# Altium schematic symbol library SCH_MyLib_0.SchLib: 770 symbols (part 1 of 7)
Pins are listed as number, name and electrical type; pins without a type are passive.

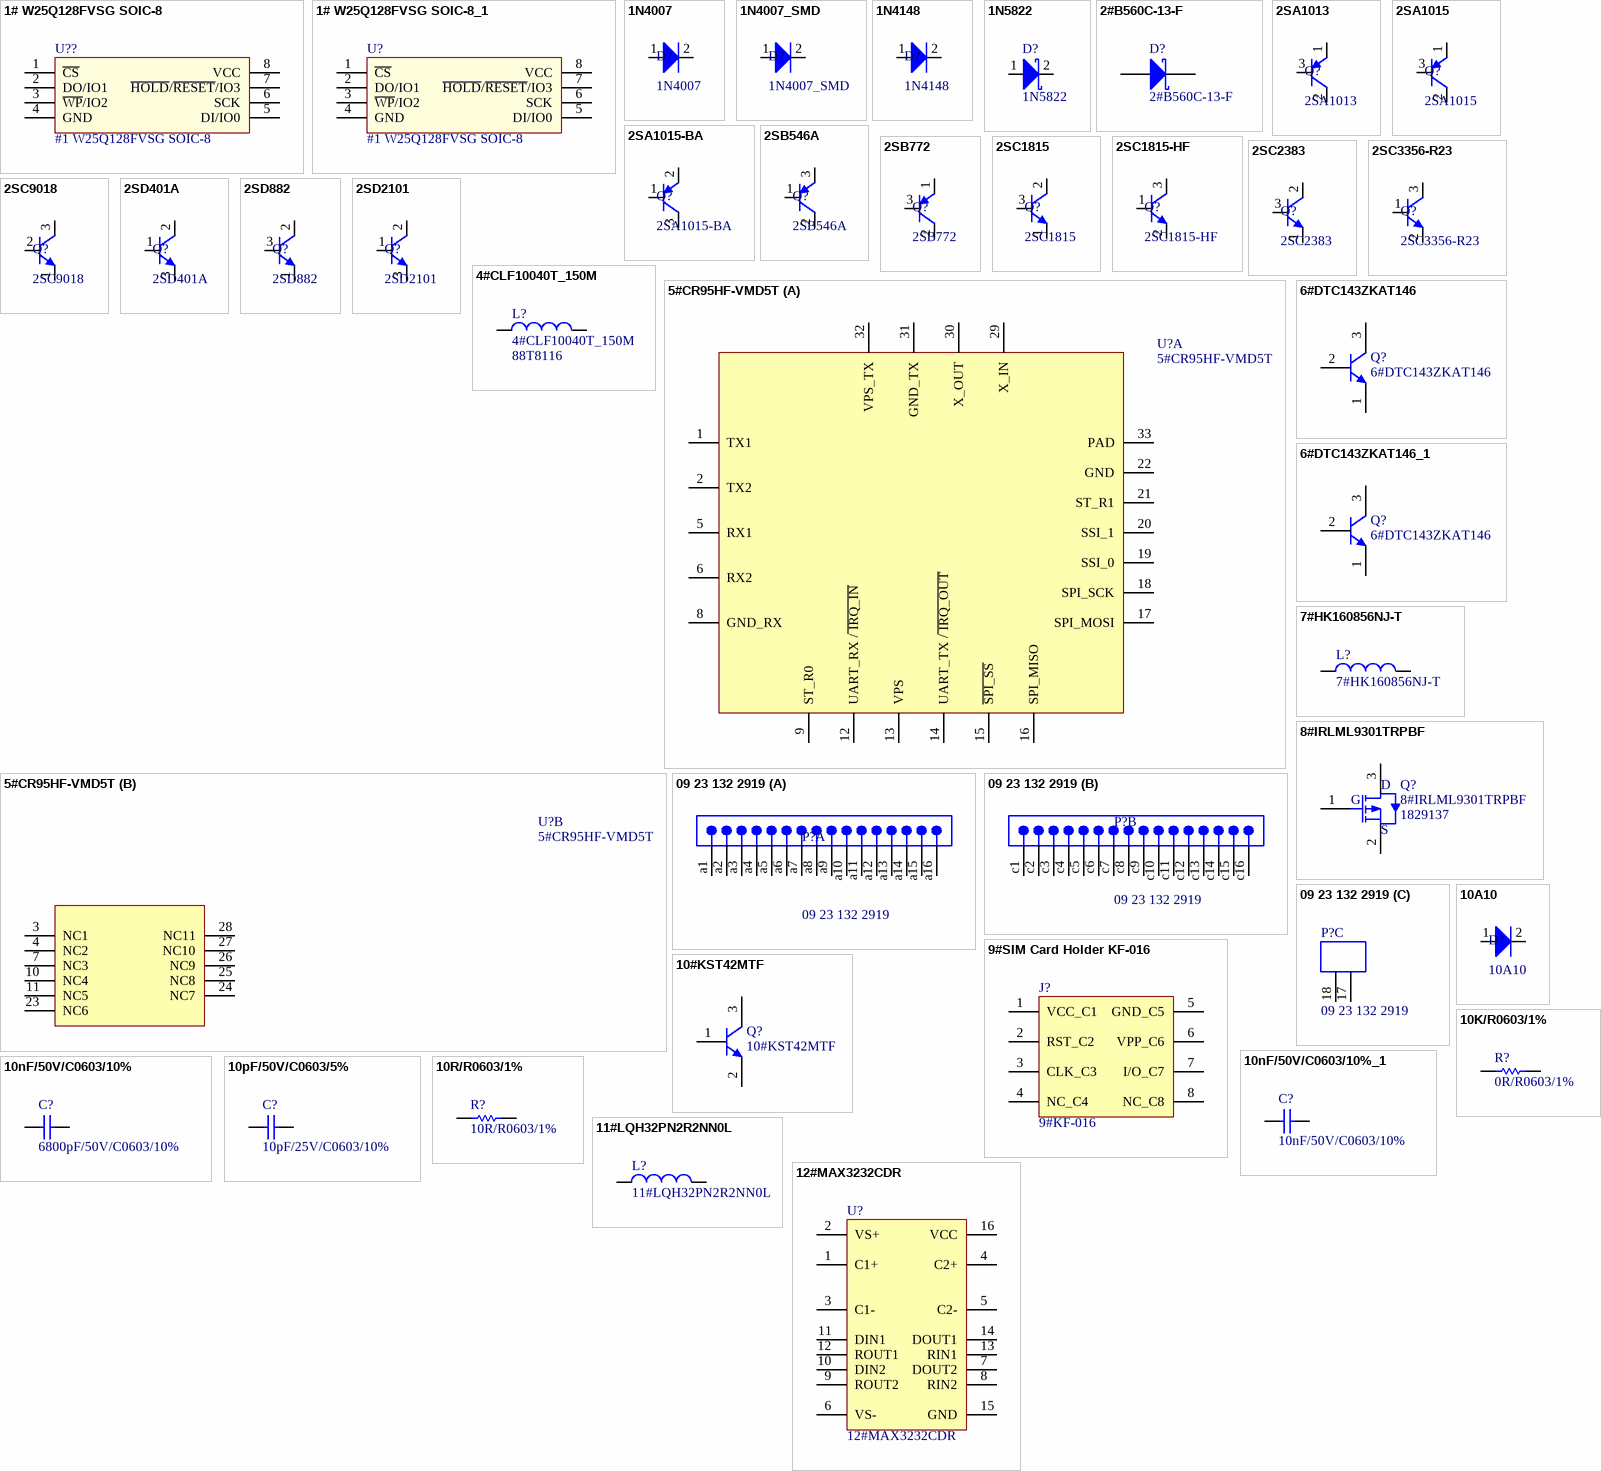
[diagram p0: symbols 1# W25Q128FVSG SOIC-8 to 12#MAX3232CDR]

## 1# W25Q128FVSG SOIC-8
designator U??, comment #1 W25Q128FVSG SOIC-8
footprint 1# W25Q128FV (8-Pin SOIC 208 mil)
pins: 1 ~{CS}, 2 DO/IO1, 3 ~{WP}/IO2, 4 GND, 5 DI/IO0, 6 SCK, 7 ~{HOLD}/~{RESET}/IO3, 8 VCC

## 1# W25Q128FVSG SOIC-8_1
designator U?, comment #1 W25Q128FVSG SOIC-8
footprint 1# W25Q128FV (8-Pin SOIC 208 mil)
pins: 1 ~{CS}, 2 DO/IO1, 3 ~{WP}/IO2, 4 GND, 5 DI/IO0, 6 SCK, 7 ~{HOLD}/~{RESET}/IO3, 8 VCC

## 1N4007
designator D?
Diode LS 1A 1000V DO-41; ComponentLink1Description: Datasheet; ComponentLink1URL: D:\Dropbox\Datasheets\Diodes and Rectifiers\Diodes\1N400X.pdf; Unit Price: 0.0072
footprint 1N4007 (DIODE_DIP)
pins: 1 A, 2 K

## 1N4007_SMD
designator D?
Diode LS 1A 1000V DO214-AC; ComponentLink1Description: Datasheet; ComponentLink1URL: D:\Dropbox\Datasheets\Diodes and Rectifiers\Diodes\1N400X.pdf; Unit Price: 0.0072
footprint 1n4007 smd (DO214 4.57x2.79mm)
pins: 1 A, 2 K

## 1N4148
designator D?
Diode HS 200mA 100V DO-35; ComponentLink1Description: Datasheet; ComponentLink1URL: D:\Dropbox\Datasheets\Diodes and Rectifiers\Diodes\1N4148.pdf; Unit Price: 0.0038
footprint 1N4148 (DIODE_DIP)
pins: 1 A, 2 K

## 1N5822
designator D?
Schottky Diode 3A 40V DO-201AD; ComponentLink1Description: Datasheet; ComponentLink1URL: D:\Dropbox\Datasheets\Diodes and Rectifiers\Diodes\1N582X.pdf; Unit Price: 0.1667
footprint 1N5822 (DIODE_DIP)
pins: 1 A, 2 K

## 2#B560C-13-F
designator D?
DIODE SCHOTTKY 60V 5A SMC; Manufacturer: Diodes; Peak Reverse Current: 500uA; Forward Voltage: 700mV; Max Forward Surge Current (Ifsm): 100A; Element Configuration: Single; Polarity: Standard; Capacitance: 300pF; Supplier 1: Digi-Key; Manufacturer Part Number: B560C-13-F; Stock 1: 183351; Pricing 1: 1=0.55, 10=0.467, 100=0.349, 500=0.2742, 1000=0.2119 (USD); Mount: Surface Mount; Case/Package: SMC; Number of Pins: 2; Weight: 0.007408oz; Contact Plating: Matte,Tin; Min Operating Temperature: -55°C; Max Operating Temperature: 125°C; Package Quantity: 3000; Packaging: Tape and Reel; Forward Current: 5A; Max Repetitive Reverse Voltage (Vrrm): 60V; Average Rectified Current: 5A; Peak Non-Repetitive Surge Current: 100A; Termination: SMD/SMT; Voltage Rating (DC): 60V; Current Rating: 5A; Output Current: 5A; Max Reverse Voltage (DC): 60V; Length: 7.11mm; Height: 2.5mm; Width: 6.22mm; Radiation Hardening: No; REACH SVHC: No SVHC; Lead Free: Lead Free; Supplier Part Number 1: B560C-FDICT-ND
footprint 2# B560C (Molded Diode, 2-Leads, Body 6.85x5.90mm, IPC Medium Density)
pins: 1 A, 2 K

## 2SA1013
designator Q?
Trans PNP -160V -1A TO-92; ComponentLink1Description: Datasheet; ComponentLink1URL: D:\Dropbox\Datasheets\Transistors\N Channel Bipolar\2SA1013.pdf; Unit Price: 0.0476
footprint 2SA1013 (TO-92 Bent Lead, Flat Index; 3 In-Line, Axial Leads; Body Dia. 4.5mm; Leads 0.51 x 0.48 mm (max))
pins: 1 E, 2 C, 3 B

## 2SA1015
designator Q?
Trans PNP -50V -150mA TO-92; ComponentLink1Description: Datasheet; ComponentLink1URL: D:\Dropbox\Datasheets\Transistors\N Channel Bipolar\2SA1015.pdf; Unit Price: 0.0143
footprint 2SA1015 (TO-92 Bent Lead, Flat Index; 3 In-Line, Axial Leads; Body Dia. 4.5mm; Leads 0.51 x 0.48 mm (max))
pins: 1 E, 2 C, 3 B

## 2SA1015-BA
designator Q?
Trans PNP -50V -150mA SOT-23; ComponentLink1Description: Datasheet; ComponentLink1URL: D:\Dropbox\Datasheets\Transistors\N Channel Bipolar\2SA1015-BA.pdf; Unit Price: 0.0286
footprint SOT-23_L (SOT23, 3-Leads, Body 2.9x1.3mm, Pitch 0.95mm, Lead Span 2.5mm, IPC High Density)
pins: 1 B, 2 E, 3 C

## 2SB546A
designator Q?
Trans PNP -150V -2A TO-220; ComponentLink1Description: Datasheet; ComponentLink1URL: D:\Dropbox\Datasheets\Transistors\N Channel Bipolar\2SB546A.pdf; Unit Price: 0.1667
footprint TO-220AB (TO, Thru-Hole, Vertical, Heatsink Mounted; 3 In-Line Leads; Pitch 2.54 mm)
pins: 1 B, 2 C, 3 E

## 2SB772
designator Q?
Trans PNP -30V -3A TO-126; ComponentLink1Description: Datasheet; ComponentLink1URL: D:\Dropbox\Datasheets\Transistors\P Channel Bipolar\2SB772.pdf; Unit Price: 0.1190
footprint TO-126 (Footprint not found)
pins: 1 E, 2 C, 3 B

## 2SC1815
designator Q?
Trans NPN 50V 150mA TO-92; ComponentLink1Description: Datasheet; ComponentLink1URL: D:\Dropbox\Datasheets\Transistors\P Channel Bipolar\2SC1815.pdf; Unit Price: 0.0143
footprint 2SC1815 (TO-92 Bent Lead, Flat Index; 3 In-Line, Axial Leads; Body Dia. 4.5mm; Leads 0.51 x 0.48 mm (max))
pins: 1 E, 2 C, 3 B

## 2SC1815-HF
designator Q?
Trans NPN 50V 150mA SOT-23; ComponentLink1Description: Datasheet; ComponentLink1URL: D:\Dropbox\Datasheets\Transistors\P Channel Bipolar\2SC1815-HF.pdf; Unit Price: 0.0286
footprint 2SC1815-HF (SOT23-3)
pins: 1 B, 2 E, 3 C

## 2SC2383
designator Q?
Trans NPN 160V 1A TO-92; ComponentLink1Description: Datasheet; ComponentLink1URL: D:\Dropbox\Datasheets\Transistors\P Channel Bipolar\2SC2383.pdf; Unit Price: 0.0476
footprint TO-92A (TO-92 Straight Lead, Flat Index; 3 In-Line, Axial Leads; Body Dia. 4.5mm; Leads 0.51 x 0.48 mm (max))
pins: 1 E, 2 C, 3 B

## 2SC3356-R23
designator Q?
Trans NPN 12V 100mA SOT-23; ComponentLink1Description: Datasheet; ComponentLink1URL: D:\Dropbox\Datasheets\Transistors\P Channel Bipolar\2SC2356-R23.pdf; Unit Price: 0.0714
footprint SOT-23_L (SOT23, 3-Leads, Body 2.9x1.3mm, Pitch 0.95mm, Lead Span 2.5mm, IPC High Density)
pins: 1 B, 2 E, 3 C

## 2SC9018
designator Q?
Trans NPN 15V 50mA TO-92; ComponentLink1Description: Datasheet; ComponentLink1URL: D:\Dropbox\Datasheets\Transistors\P Channel Bipolar\2SC9018.pdf; Unit Price: 0.0714
footprint TO-92A (TO-92 Straight Lead, Flat Index; 3 In-Line, Axial Leads; Body Dia. 4.5mm; Leads 0.51 x 0.48 mm (max))
pins: 1 E, 2 B, 3 C

## 2SD401A
designator Q?
Trans NPN 150V 2A TO-220; ComponentLink1Description: Datasheet; ComponentLink1URL: D:\Dropbox\Datasheets\Transistors\P Channel Bipolar\2SD401A.pdf; Unit Price: 0.1667
footprint TO-220AB (TO, Thru-Hole, Vertical, Heatsink Mounted; 3 In-Line Leads; Pitch 2.54 mm)
pins: 1 B, 2 C, 3 E

## 2SD882
designator Q?
Trans NPN 30V 3A TO-126; Unit Price: 0.1190; ComponentLink1Description: Datasheet; ComponentLink1URL: D:\Dropbox\Datasheets\Transistors\P Channel Bipolar\2SD882.pdf
footprint TO-126 (Footprint not found)
pins: 1 E, 2 C, 3 B

## 2SD2101
designator Q?
Trans NPN 200V 10A TO-220; ComponentLink1Description: Datasheet; ComponentLink1URL: D:\Dropbox\Datasheets\Transistors\P Channel Bipolar\2SD401A.pdf; Unit Price: 0.1667
footprint 2SD2101 (TO-220FM)
pins: 1 B, 2 C, 3 E

## 4#CLF10040T_150M
designator L?  Supplier Part Number 1: 88T8116
FIXED IND 15uH 3.2A 40 MOHM (10.0×9.7×3.8); Supplier 1: Newark
footprint 4# clf10040XX (Precision Wire Wound Inductor, 2-Leads, Body 10.00x9.70mm, IPC Medium Density)
pins: 1, 2

## 5#CR95HF-VMD5T
designator U?
NFC/RFID Read/Write 13.553MHz to 13.567MHz 32-Pin VFQFPN EP T/R; Manufacturer: STMicroelectronics; Data Rate: 2Mbps; Output Power: 230mW; Interface: SPI,UART; Max Supply Voltage: 3.3V; Min Supply Voltage: 2.7V; Frequency: 13.56MHz; Max Supply Current: 600uA; Max Frequency: 2MHz; Power Dissipation: 1W; Supplier 1: Digi-Key; Manufacturer Part Number: CR95HF-VMD5T; Stock 1: 10362; Pricing 1: 1=3.68, 10=3.281, 100=2.6906, 500=2.1788, 1000=1.8375 (USD); Mount: Surface Mount; Number of Pins: 32; Contact Plating: Gold,Tin; Number of Terminals: 32; Min Operating Temperature: -25°C; Max Operating Temperature: 85°C; Packaging: Tape and Reel; Package Quantity: 3000; Nominal Supply Current: 600uA; Lead Free: Lead Free; Supplier Part Number 1: 497-15737-1-ND
footprint 5# CR95HF (VFQFPN, 32-Leads, Body 5.00x5.00mm, Pitch 0.50mm, Thermal Pad 3.80x3.80mm, IPC Medium Density)
part A pins: 1 TX1, 2 TX2, 5 RX1, 6 RX2, 8 GND_RX, 9 ST_R0, 12 UART_RX /~{ IRQ_IN}, 13 VPS, 14 UART_TX /~{ IRQ_OUT}, 15 ~{SPI_SS}, 16 SPI_MISO, 17 SPI_MOSI, 18 SPI_SCK, 19 SSI_0, 20 SSI_1, 21 ST_R1, 22 GND, 29 X_IN, 30 X_OUT, 31 GND_TX, 32 VPS_TX, 33 PAD
part B pins: 3 NC1, 4 NC2, 7 NC3, 10 NC4, 11 NC5, 23 NC6, 24 NC7, 25 NC8, 26 NC9, 27 NC10, 28 NC11

## 6#DTC143ZKAT146
designator Q?
NPN 100mA 50V; Manufacturer: Rohm; hFE Min: 80; Collector Emitter Voltage (VCEO): 300mV; Transition Frequency: 250MHz; Max Power Dissipation: 200mW; Element Configuration: Single; Supplier 1: Digi-Key; Manufacturer Part Number: DTC143ZKAT146; Stock 1: 76151; Pricing 1: 1=0.21, 10=0.193, 25=0.1756, 100=0.1265, 250=0.0745, 500=0.0619, 1000=0.0422 (USD); Mount: Surface Mount; Case/Package: SOT323; Number of Pins: 3; Min Operating Temperature: -55°C; Max Operating Temperature: 150°C; Max Output Current: 100mA; Operating Supply Voltage: 50V; Packaging: Tape and Reel; Package Quantity: 1; Max Collector Current: 100mA; Collector Emitter Breakdown Voltage: 50V; Max Breakdown Voltage: 50V; Polarity: NPN; Continuous Collector Current: 100mA; Power Dissipation: 200mW; Termination: SMD/SMT; Voltage Rating (DC): 50V; Current Rating: 100mA; Length: 2.9mm; Height: 1.1mm; Width: 1.6mm; Radiation Hardening: No; REACH SVHC: No SVHC; Lead Free: Lead Free; Supplier Part Number 1: DTC143ZKAT146CT-ND
footprint 6# DTC143ZUA (SOT-323(SC-70) UMT3)
pins: 1 E, 2 B, 3 C

## 6#DTC143ZKAT146_1
designator Q?, comment 6#DTC143ZKAT146
NPN 100mA 50V; Manufacturer: Rohm; hFE Min: 80; Collector Emitter Voltage (VCEO): 300mV; Transition Frequency: 250MHz; Max Power Dissipation: 200mW; Element Configuration: Single; Supplier 1: Digi-Key; Manufacturer Part Number: DTC143ZKAT146; Stock 1: 76151; Pricing 1: 1=0.21, 10=0.193, 25=0.1756, 100=0.1265, 250=0.0745, 500=0.0619, 1000=0.0422 (USD); Mount: Surface Mount; Case/Package: SOT323; Number of Pins: 3; Min Operating Temperature: -55°C; Max Operating Temperature: 150°C; Max Output Current: 100mA; Operating Supply Voltage: 50V; Packaging: Tape and Reel; Package Quantity: 1; Max Collector Current: 100mA; Collector Emitter Breakdown Voltage: 50V; Max Breakdown Voltage: 50V; Polarity: NPN; Continuous Collector Current: 100mA; Power Dissipation: 200mW; Termination: SMD/SMT; Voltage Rating (DC): 50V; Current Rating: 100mA; Length: 2.9mm; Height: 1.1mm; Width: 1.6mm; Radiation Hardening: No; REACH SVHC: No SVHC; Lead Free: Lead Free; Supplier Part Number 1: DTC143ZKAT146CT-ND
footprint 6# DTC143ZKAT146-E (SOT-346 SMT3)
pins: 1 E, 2 B, 3 C

## 7#HK160856NJ-T
designator L?
FIXED IND 56NH 300MA 750 MOHM; Manufacturer: Taiyo Yuden; Core Material: Ceramic,Ferrite; Self Resonant Frequency: 900MHz; Shielding: Unshielded; Q Factor: 12; Tolerance: 5%; DC Resistance (DCR): 750mR; Test Frequency: 100MHz; Supplier 1: Digi-Key; Manufacturer Part Number: HK160856NJ-T; Stock 1: 0; Mount: Surface Mount; Case/Package: 0603; Weight: 7.1E-05oz; Case Code (Metric): 1608; Case Code (Imperial): 0603; Min Operating Temperature: -55°C; Max Operating Temperature: 85°C; Packaging: Tape and Reel; Package Quantity: 4000; Current Rating: 300mA; Inductance: 56nh; Inductance Tolerance: 5%; Max DC Current: 300mA; Termination: SMD/SMT; Length: 0.063inch; Height: 0.8mm; Width: 0.8mm; Height - Seated (Max): 0.037inch; Lead Free: Exempt; Halogen Free: Halogen Free; REACH SVHC: Unknown; Supplier Part Number 1: 587-1554-1-ND
footprint 7# HK160856NJ-T (Chip Inductor, 2-Leads, Body 1.60x0.80mm, IPC Medium Density)
pins: 1, 2

## 8#IRLML9301TRPBF
designator Q?  Supplier Part Number 1: 1829137
MOSFET MOSFT P-Ch -30V -3.6A 64mOhm; Manufacturer: International Rectifier; Rds On Max: 64mR; Input Capacitance: 388pF; Rise Time: 19ns; Recovery Time: 21ns; Nominal Vgs: -1.3V; Number of Elements: 1; Max Power Dissipation: 1.3W; Drain to Source Voltage (Vdss): 30V; Continuous Drain Current (ID): 3.6A; Gate to Source Voltage (Vgs): 20V; Drain to Source Resistance: 103mR; Turn-On Delay Time: 9.6ns; Turn-Off Delay Time: 16ns; Fall Time: 15ns; Element Configuration: Single; Supplier 1: Farnell; Manufacturer Part Number: IRLML9301TRPBF; Mount: Surface Mount; Case/Package: SOT-23; Number of Pins: 3; Min Operating Temperature: -55°C; Max Operating Temperature: 150°C; Packaging: Tape and Reel; Package Quantity: 1; Power Dissipation: 1.3W; Threshold Voltage: -1.3V; Drain to Source Breakdown Voltage: -30V; On-State Resistance: 64MR; Length: 3.04mm; Height: 1.02mm; Width: 1.4mm; Radiation Hardening: No; REACH SVHC: No SVHC; Lead Free: Lead Free
footprint 8# IRLML9301- TRPbF (SOT-23)
pins: 1 G, 2 S, 3 D

## 09 23 132 2919
designator P?
Eurocard DIN 41612, Type 2C, Half Size, 32 Position, Rows a+c, Performance level 1, Male, Lead 3.0 mm, Pitch 2.54 mm; DrillSize: Corresponds to nominal value.; Published: 6-Oct-2005; DatasheetDocument: 03-Jun-2003; PackageReference: 0923132x919; Publisher: Altium Limited; ComponentLink1Description: Manufacturer Link; ComponentLink1URL: http://www.harting.com/
footprint 0923132x919 (Connector; DIN 41612, Type 2C, Thru-Hole; Rows a+c, 32 Position; Right Angle)
part A pins: a1, a2, a3, a4, a5, a6, a7, a8, a9, a10, a11, a12, a13, a14, a15, a16
part B pins: c1, c2, c3, c4, c5, c6, c7, c8, c9, c10, c11, c12, c13, c14, c15, c16
part C pins: 17 MH1 "Mounting Fixture", 18 MH2 "Mounting Fixture"

## 9#SIM Card Holder KF-016
designator J?, comment 9#KF-016
9#SIM Card Holder KF-016
footprint 9# SIM holder (Micro SIM Push Connector SIM Card Connector with 6 Pin 1.35H)
pins: 1 VCC_C1, 2 RST_C2, 3 CLK_C3, 4 NC_C4, 5 GND_C5, 6 VPP_C6, 7 I/O_C7, 8 NC_C8

## 10#KST42MTF
designator Q?
TRANS NPN 300V 0.5A SOT23; Manufacturer: ON Semiconductor / Fairchild; Max Power Dissipation: 350mW; Number of Elements: 1; hFE Min: 40; Frequency: 50MHz; Emitter Base Voltage (VEBO): 6V; Collector Emitter Saturation Voltage: 500mV; Max Collector Current: 500mA; Element Configuration: Single; Supplier 1: Digi-Key; Manufacturer Part Number: KST42MTF; Stock 1: 0; Mount: Surface Mount; Case/Package: SOT-23; Number of Pins: 3; Weight: 0.03g; Max Operating Temperature: 150°C; Packaging: Tape and Reel; Package Quantity: 1; Collector Emitter Voltage (VCEO): 300V; Polarity: NPN; Collector Base Voltage (VCBO): 300V; Collector Emitter Breakdown Voltage: 300V; Transition Frequency: 50MHz; Max Breakdown Voltage: 300V; Power Dissipation: 350mW; Gain Bandwidth Product: 50MHz; Max Frequency: 50MHz; Voltage Rating (DC): 300V; Current Rating: 500mA; Length: 2.92mm; Height: 0.93mm; Width: 1.3mm; Radiation Hardening: No; REACH SVHC: No SVHC; Lead Free: Lead Free; Supplier Part Number 1: KST42MTFCT-ND
footprint 10# KST42 (SOT-23)
pins: 1 B, 2 E, 3 C

## 10A10
designator D?
Diode LS 10A 1000V DO-201EX; ComponentLink1Description: Datasheet; ComponentLink1URL: D:\Dropbox\Datasheets\Diodes and Rectifiers\Diodes\10AXX.pdf; Unit Price: 0.1429
footprint 10A10 (DIODE_10A)
pins: 1 A, 2 K

## 10K/R0603/1%
designator R?, comment 0R/R0603/1%
RES SMD 10K OHM 1% 1/10W 0603; Manufacturer: Yageo; Manufacturer Part Number: RC0603FR-0710KL; Power (Watts): 0.1W, 1/10W; Temperature Coefficient: ±100ppm/°C; Supplier 1: Digi-Key; RoHS: RoHS Compliant; Category: Resistors; Stock 1: 11440000; Pricing 1: 5000=0.00167, 10000=0.00145, 25000=0.00128, 50000=0.00117, 125000=0.00115 (USD); Packaging: Tape & Reel (TR); Resistance (Ohms): 10k; Tolerance: ±1%; Composition: Thick Film; Features: Moisture Resistant; Operating Temperature: -55°C ~ 155°C; Package / Case: 0603 (1608 Metric); Supplier Device Package: 0603; Size / Dimension: 0.063" L x 0.031" W (1.60mm x 0.80mm); Height: 0.022" (0.55mm); Number of Terminations: 2; ComponentLink1URL: http://www.yageo.com/NewPortal/yageodocoutput?fileName=/pdf/R-Chip/PYu-RC_Group_51_RoHS_L_3.pdf; ComponentLink1Description: http://www.yageo.com/NewPortal/yageodocoutput?fileName=/pdf/R-Chip/PYu-RC_Group_51_RoHS_L_3.pdf; Supplier Part Number 1: 311-10.0KHRTR-ND
footprint Res 0603 SMD (Reflow Soldering)
pins: 1, 2

## 10nF/50V/C0603/10%
designator C?, comment 6800pF/50V/C0603/10%
CAP CER 10000PF 50V X7R 0603; Manufacturer: Murata Electronics North America; Manufacturer Part Number: GRM188R71H103KA01D; Tolerance: ±10%; RoHS: RoHS Compliant; Category: Capacitors; Packaging: Cut Tape (CT); Capacitance: 10000pF; Voltage - Rated: 50V; Temperature Coefficient: X7R; Mounting Type: Surface Mount, MLCC; Operating Temperature: -55°C ~ 125°C; Applications: General Purpose; Ratings: -; Package / Case: 0603 (1608 Metric); Size / Dimension: 0.063" L x 0.031" W (1.60mm x 0.80mm); Height - Seated (Max): -; Thickness (Max): 0.035" (0.90mm); Lead Spacing: -; Features: -; Lead Style: -; ComponentLink1URL: http://www.murata.com/~/media/webrenewal/support/library/catalog/products/capacitor/mlcc/c02e.ashx; ComponentLink1Description: http://www.murata.com/~/media/webrenewal/support/library/catalog/products/capacitor/mlcc/c02e.ashx; Supplier 1: Digi-Key; Supplier Part Number 1: 490-1512-1-ND
footprint Cap Ceramic 0603 SMD (Reflow Soldering)
pins: 1, 2

## 10nF/50V/C0603/10%_1
designator C?, comment 10nF/50V/C0603/10%
CAP CER 10000PF 50V X7R 0603; Manufacturer: Murata Electronics North America; Manufacturer Part Number: GRM188R71H103KA01D; Tolerance: ±10%; RoHS: RoHS Compliant; Category: Capacitors; Packaging: Cut Tape (CT); Capacitance: 10000pF; Voltage - Rated: 50V; Temperature Coefficient: X7R; Mounting Type: Surface Mount, MLCC; Operating Temperature: -55°C ~ 125°C; Applications: General Purpose; Ratings: -; Package / Case: 0603 (1608 Metric); Size / Dimension: 0.063" L x 0.031" W (1.60mm x 0.80mm); Height - Seated (Max): -; Thickness (Max): 0.035" (0.90mm); Lead Spacing: -; Features: -; Lead Style: -; ComponentLink1URL: http://www.murata.com/~/media/webrenewal/support/library/catalog/products/capacitor/mlcc/c02e.ashx; ComponentLink1Description: http://www.murata.com/~/media/webrenewal/support/library/catalog/products/capacitor/mlcc/c02e.ashx; Supplier 1: Digi-Key; Supplier Part Number 1: 490-1512-1-ND
footprint Cap Ceramic 0603 SMD (Reflow Soldering)
pins: 1, 2

## 10pF/50V/C0603/5%
designator C?, comment 10pF/25V/C0603/10%
CAP CER 10PF 50V 5% NP0 0603; Manufacturer: Kemet; Manufacturer Part Number: C0603C100J5GACTU; Temperature Coefficient: C0G, NP0; Supplier 1: Digi-Key; RoHS: RoHS Compliant; Category: Capacitors; Stock 1: 36000; Pricing 1: 4000=0.00575, 8000=0.00525, 12000=0.005, 28000=0.00475, 100000=0.00344 (USD); Packaging: Tape & Reel (TR); Capacitance: 10pF; Tolerance: ±5%; Voltage - Rated: 50V; Mounting Type: Surface Mount, MLCC; Operating Temperature: -55°C ~ 125°C; Applications: General Purpose; Ratings: -; Package / Case: 0603 (1608 Metric); Size / Dimension: 0.063" L x 0.031" W (1.60mm x 0.80mm); Height - Seated (Max): -; Thickness (Max): 0.034" (0.87mm); Lead Spacing: -; Features: -; Lead Style: -; ComponentLink1URL: http://www.kemet.com/docfinder?Partnumber=C0603C100J5GACTU; ComponentLink1Description: http://www.kemet.com/docfinder?Partnumber=C0603C100J5GACTU; Supplier Part Number 1: 399-1049-2-ND
footprint Cap Ceramic 0603 SMD (Reflow Soldering)
pins: 1, 2

## 10R/R0603/1%
designator R?
RES SMD 10K OHM 1% 1/10W 0603; Manufacturer: Yageo; Manufacturer Part Number: RC0603FR-0710KL; Power (Watts): 0.1W, 1/10W; Temperature Coefficient: ±100ppm/°C; Supplier 1: Digi-Key; RoHS: RoHS Compliant; Category: Resistors; Stock 1: 11440000; Pricing 1: 5000=0.00167, 10000=0.00145, 25000=0.00128, 50000=0.00117, 125000=0.00115 (USD); Packaging: Tape & Reel (TR); Resistance (Ohms): 10k; Tolerance: ±1%; Composition: Thick Film; Features: Moisture Resistant; Operating Temperature: -55°C ~ 155°C; Package / Case: 0603 (1608 Metric); Supplier Device Package: 0603; Size / Dimension: 0.063" L x 0.031" W (1.60mm x 0.80mm); Height: 0.022" (0.55mm); Number of Terminations: 2; ComponentLink1URL: http://www.yageo.com/NewPortal/yageodocoutput?fileName=/pdf/R-Chip/PYu-RC_Group_51_RoHS_L_3.pdf; ComponentLink1Description: http://www.yageo.com/NewPortal/yageodocoutput?fileName=/pdf/R-Chip/PYu-RC_Group_51_RoHS_L_3.pdf; Supplier Part Number 1: 311-10.0KHRTR-ND
footprint Res 0603 SMD (Reflow Soldering)
pins: 1, 2

## 11#LQH32PN2R2NN0L
designator L?
Inductor Power Chip Shielded Wirewound 2.2uH 30% 1MHz Ferrite 1.6A 91.2mOhm DCR 1210 Embossed T/R; Manufacturer: Murata; Self Resonant Frequency: 70MHz; Saturation Current: 1.55A; DC Resistance (DCR): 76mR; Supplier 1: Digi-Key; Manufacturer Part Number: LQH32PN2R2NN0L; Stock 1: 21482; Pricing 1: 1=0.41, 10=0.361, 100=0.2483, 500=0.2122, 1000=0.1625 (USD); Mount: Surface Mount; Case/Package: 1210; Weight: 0.001552oz; Core Material: Ferrite; Case Code (Metric): 3225; Case Code (Imperial): 1210; Min Operating Temperature: -40°C; Max Operating Temperature: 85°C; Tolerance: 30%; Packaging: Tape and Reel; Shielding: Shielded; Package Quantity: 1; Current Rating: 1.6A; Inductance: 2.2uh; Max DC Current: 1.55A; Termination: SMD/SMT; Composition: Wirewound; Test Frequency: 1MHz; DC Current: 1.6A; Military Standard: Not; Inductance Tolerance: 30%; Length: 3.2mm; Height: 2mm; Width: 2.5mm; Height - Seated (Max): 0.067inch; Depth: 2.8mm; Radiation Hardening: No; REACH SVHC: No SVHC; Lead Free: Lead Free; Supplier Part Number 1: 490-5336-1-ND
footprint 11# LQH32PN2R2 (NN0)
pins: 1, 2

## 12#MAX3232CDR
designator U?
IC DRVR/RCVR MULTCH RS232 16SOIC; Manufacturer: Texas Instruments; Number of Receivers: 2; Data Rate: 250Kbps; Operating Supply Voltage: 5V; Max Supply Voltage: 5.5V; Min Supply Voltage: 3V; Nominal Supply Current: 1mA; Logic Function: Receiver,Transceiver; Number of Transceivers: 1; Output Voltage: 5.4V; Simplex/Duplex: Full Duplex; ESD Protection: Yes; Supplier 1: Digi-Key; Manufacturer Part Number: MAX3232CDR; Stock 1: 41536; Pricing 1: 1=1.89, 10=1.695, 100=1.3624, 500=1.1194, 1000=0.9275 (USD); Mount: Surface Mount; Case/Package: D; Number of Pins: 16; Weight: 0.004998oz; Contact Plating: Gold; Min Operating Temperature: -40°C; Max Operating Temperature: 85°C; Number of Transmitters: 2; Packaging: Tape and Reel; Package Quantity: 1; Number of Drivers: 2; Operating Supply Current: 1mA; Max Supply Current: 1mA; Length: 9.9mm; Height: 1.58mm; Width: 3.91mm; Radiation Hardening: No; REACH SVHC: No SVHC; Lead Free: Lead Free; Supplier Part Number 1: 296-13094-1-ND
footprint 12# MAX3232CDR (D - R-PDSO-G16  3.9mm width)
pins: 1 C1+, 2 VS+, 3 C1-, 4 C2+, 5 C2-, 6 VS-, 7 DOUT2, 8 RIN2, 9 ROUT2, 10 DIN2, 11 DIN1, 12 ROUT1, 13 RIN1, 14 DOUT1, 15 GND, 16 VCC

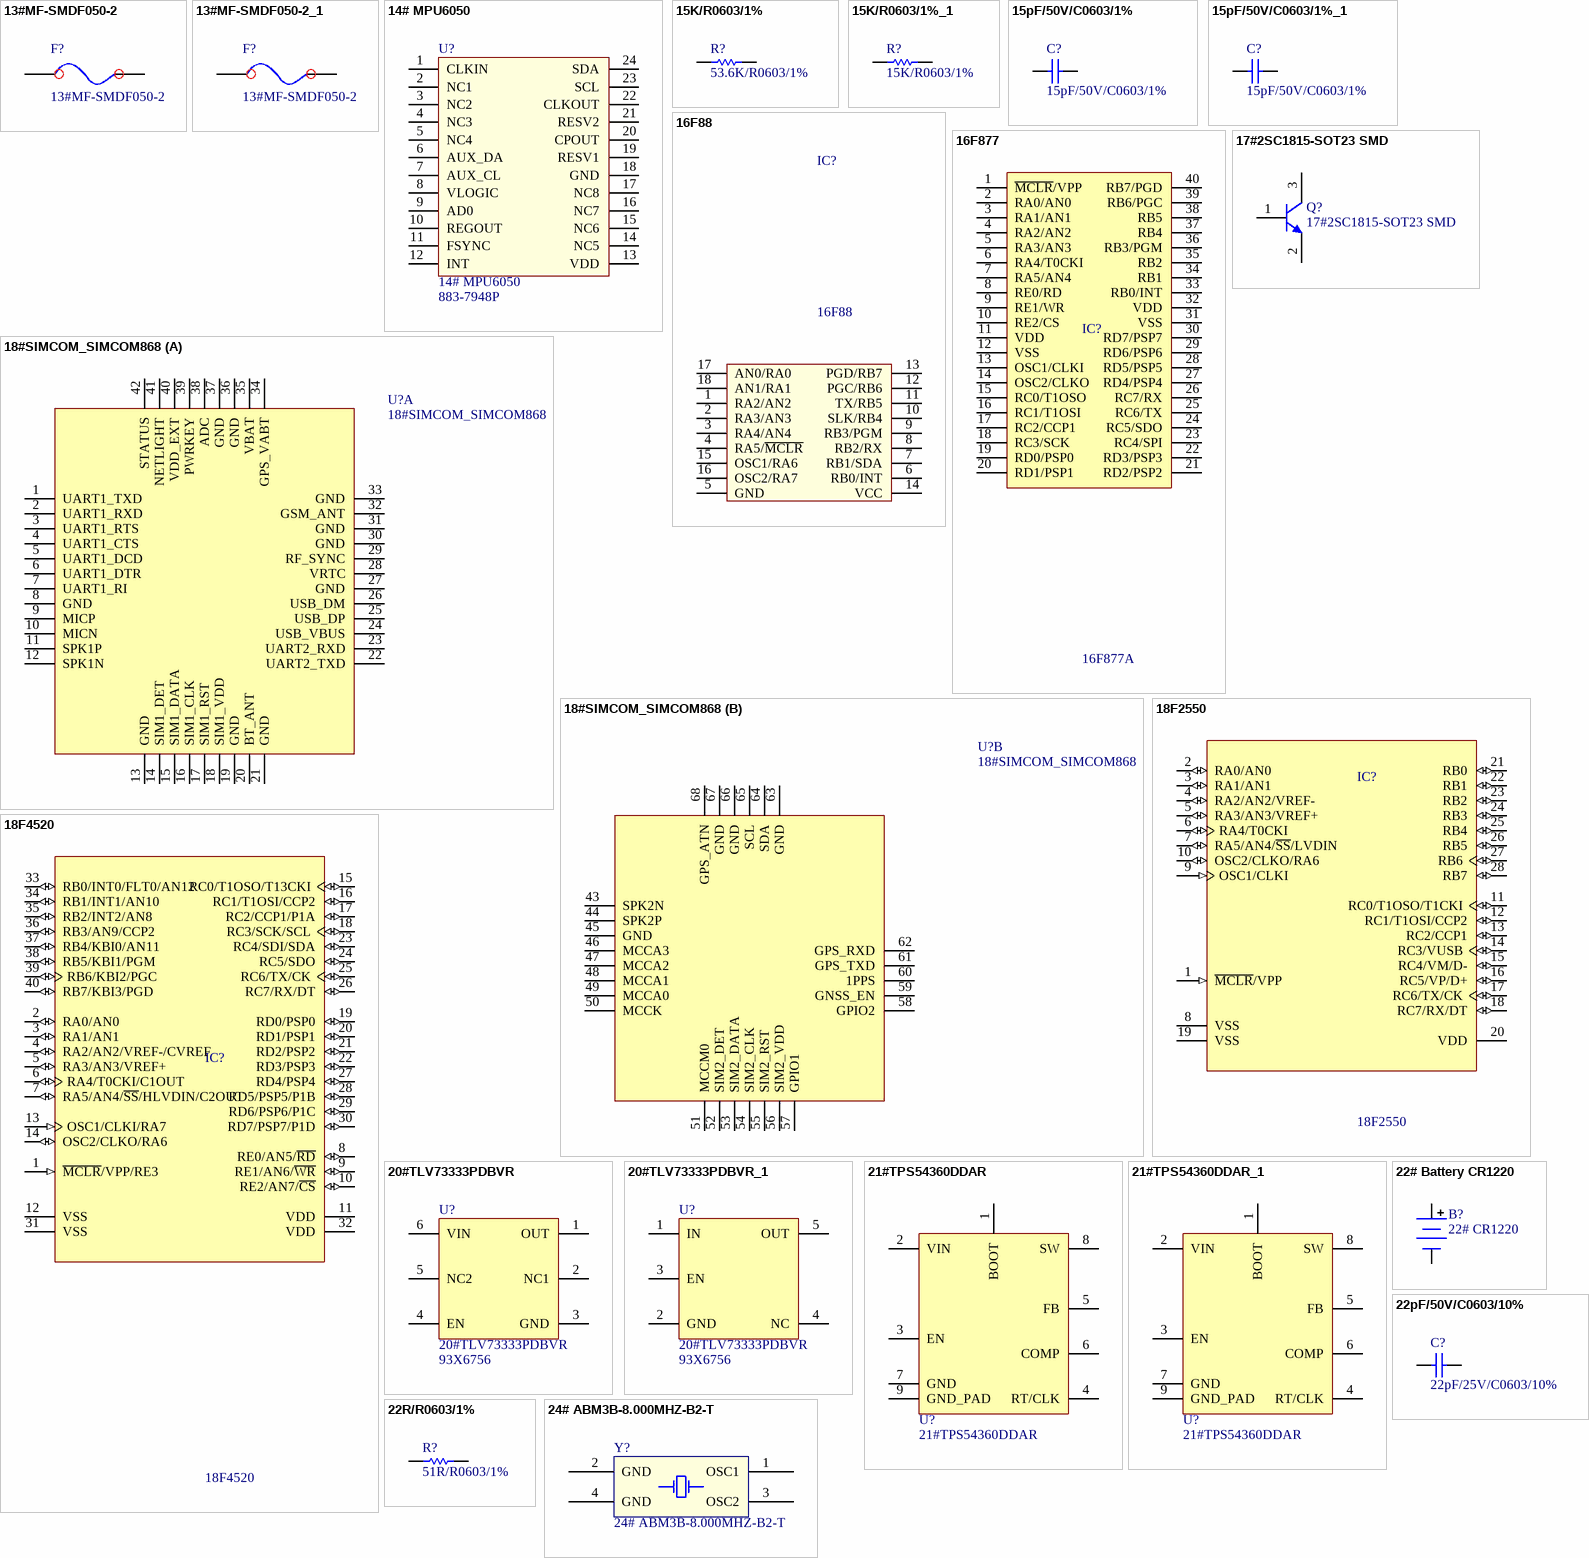
[diagram p1: symbols 13#MF-SMDF050-2 to 24# ABM3B-8.000MHZ-B2-T]

## 13#MF-SMDF050-2
designator F?
PTC RESETTABLE .55A 60V 2018; Manufacturer: Bourns; Current Rating: 10A; Resistance: 1R; Power Dissipation: 900mW; Hold Current: 550mA; Trip Current: 1.2A; Time to Trip: 3s; Approvals: CSA,TUV,UL; Supplier 1: Digi-Key; Manufacturer Part Number: MF-SMDF050-2; Stock 1: 235849; Pricing 1: 1=0.46, 5=0.446, 10=0.433, 50=0.3644, 100=0.3025, 250=0.275, 500=0.2338, 1000=0.2063 (USD); Mount: PCB,Surface Mount; Case/Package: 2018; Case Code (Metric): 5045; Number of Terminals: 2; Case Code (Imperial): 2018; Contact Plating: Gold; Terminal Material: Gold; Min Operating Temperature: -40°C; Max Operating Temperature: 85°C; Package Quantity: 6000; Packaging: Tape and Reel; Max Current Rating: 10A; Voltage Rating: 60V; Operating Supply Voltage: 60V; Termination: SMD/SMT; Voltage Rating (DC): 60V; Length: 5.44mm; Height: 1.09mm; Width: 4.93mm; Radiation Hardening: No; REACH SVHC: Unknown; Lead Free: Lead Free; Supplier Part Number 1: MF-SMDF050-2CT-ND
footprint 13# MF-SMDF050 (style1)
pins: 1 IN, 2 OUT

## 13#MF-SMDF050-2_1
designator F?, comment 13#MF-SMDF050-2
PTC RESETTABLE .55A 60V 2018; Manufacturer: Bourns; Current Rating: 10A; Resistance: 1R; Power Dissipation: 900mW; Hold Current: 550mA; Trip Current: 1.2A; Time to Trip: 3s; Approvals: CSA,TUV,UL; Supplier 1: Digi-Key; Manufacturer Part Number: MF-SMDF050-2; Stock 1: 235849; Pricing 1: 1=0.46, 5=0.446, 10=0.433, 50=0.3644, 100=0.3025, 250=0.275, 500=0.2338, 1000=0.2063 (USD); Mount: PCB,Surface Mount; Case/Package: 2018; Case Code (Metric): 5045; Number of Terminals: 2; Case Code (Imperial): 2018; Contact Plating: Gold; Terminal Material: Gold; Min Operating Temperature: -40°C; Max Operating Temperature: 85°C; Package Quantity: 6000; Packaging: Tape and Reel; Max Current Rating: 10A; Voltage Rating: 60V; Operating Supply Voltage: 60V; Termination: SMD/SMT; Voltage Rating (DC): 60V; Length: 5.44mm; Height: 1.09mm; Width: 4.93mm; Radiation Hardening: No; REACH SVHC: Unknown; Lead Free: Lead Free; Supplier Part Number 1: MF-SMDF050-2CT-ND
footprint 13# MF-SMDF050 (style1)
pins: 1 IN, 2 OUT

## 14# MPU6050
designator U?  Supplier Part Number 1: 883-7948P
Case/Package: QFN; Supplier 1: RSComponents
footprint 14# MPU -6050 (QFN)
pins: 1 CLKIN, 2 NC1, 3 NC2, 4 NC3, 5 NC4, 6 AUX_DA, 7 AUX_CL, 8 VLOGIC, 9 AD0, 10 REGOUT, 11 FSYNC, 12 INT, 13 VDD, 14 NC5, 15 NC6, 16 NC7, 17 NC8, 18 GND, 19 RESV1, 20 CPOUT, 21 RESV2, 22 CLKOUT, 23 SCL, 24 SDA

## 15K/R0603/1%
designator R?, comment 53.6K/R0603/1%
RES SMD 15K OHM 1% 1/10W 0603; Manufacturer: Yageo; Manufacturer Part Number: RC0603FR-0715KL; Power (Watts): 0.1W, 1/10W; Temperature Coefficient: ±100ppm/°C; RoHS: RoHS Compliant; Category: Resistors; Packaging: Digi-Reel®; Resistance (Ohms): 15k; Tolerance: ±1%; Composition: Thick Film; Features: Moisture Resistant; Operating Temperature: -55°C ~ 155°C; Package / Case: 0603 (1608 Metric); Supplier Device Package: 0603; Size / Dimension: 0.063" L x 0.031" W (1.60mm x 0.80mm); Height: 0.022" (0.55mm); Number of Terminations: 2; ComponentLink1URL: http://www.yageo.com/NewPortal/yageodocoutput?fileName=/pdf/R-Chip/PYu-RC_Group_51_RoHS_L_3.pdf; ComponentLink1Description: http://www.yageo.com/NewPortal/yageodocoutput?fileName=/pdf/R-Chip/PYu-RC_Group_51_RoHS_L_3.pdf; Supplier 1: Digi-Key; Supplier Part Number 1: 311-15.0KHRCT-ND
footprint Res 0603 SMD (Reflow Soldering)
pins: 1, 2

## 15K/R0603/1%_1
designator R?, comment 15K/R0603/1%
RES SMD 15K OHM 1% 1/10W 0603; Manufacturer: Yageo; Manufacturer Part Number: RC0603FR-0715KL; Power (Watts): 0.1W, 1/10W; Temperature Coefficient: ±100ppm/°C; RoHS: RoHS Compliant; Category: Resistors; Packaging: Digi-Reel®; Resistance (Ohms): 15k; Tolerance: ±1%; Composition: Thick Film; Features: Moisture Resistant; Operating Temperature: -55°C ~ 155°C; Package / Case: 0603 (1608 Metric); Supplier Device Package: 0603; Size / Dimension: 0.063" L x 0.031" W (1.60mm x 0.80mm); Height: 0.022" (0.55mm); Number of Terminations: 2; ComponentLink1URL: http://www.yageo.com/NewPortal/yageodocoutput?fileName=/pdf/R-Chip/PYu-RC_Group_51_RoHS_L_3.pdf; ComponentLink1Description: http://www.yageo.com/NewPortal/yageodocoutput?fileName=/pdf/R-Chip/PYu-RC_Group_51_RoHS_L_3.pdf; Supplier 1: Digi-Key; Supplier Part Number 1: 311-15.0KHRCT-ND
footprint Res 0603 SMD (Reflow Soldering)
pins: 1, 2

## 15pF/50V/C0603/1%
designator C?
Multilayer Ceramic Capacitors MLCC - SMD/SMT 15pF 50V NPO 1%; Manufacturer: Yageo; Manufacturer Part Number: CC0603FRNPO9BN150; Dielectric: C0G; Supplier 1: Digi-Key; Stock 1: 3850; Pricing 1: 1=0.21, 10=0.147, 100=0.0691, 500=0.0485, 1000=0.0401 (USD); Mount: Surface Mount; Case/Package: 0603; Case Code (Imperial): 0603; Case Code (Metric): 1608; Min Operating Temperature: -55°C; Max Operating Temperature: 125°C; Packaging: Tape and Reel; Tolerance: 1%; Capacitance: 15pF; Voltage Rating: 50V; Termination: SMD/SMT; Length: 1.6mm; Height: 0.8mm; Width: 0.031inch; Thickness: 0.035inch; Depth: 0.8mm; Radiation Hardening: No; Lead Free: Lead Free; Supplier Part Number 1: 311-3887-1-ND
footprint Cap Ceramic 0603 SMD (Reflow Soldering)
pins: 1, 2

## 15pF/50V/C0603/1%_1
designator C?, comment 15pF/50V/C0603/1%
Multilayer Ceramic Capacitors MLCC - SMD/SMT 15pF 50V NPO 1%; Manufacturer: Yageo; Manufacturer Part Number: CC0603FRNPO9BN150; Dielectric: C0G; Supplier 1: Digi-Key; Stock 1: 3850; Pricing 1: 1=0.21, 10=0.147, 100=0.0691, 500=0.0485, 1000=0.0401 (USD); Mount: Surface Mount; Case/Package: 0603; Case Code (Imperial): 0603; Case Code (Metric): 1608; Min Operating Temperature: -55°C; Max Operating Temperature: 125°C; Packaging: Tape and Reel; Tolerance: 1%; Capacitance: 15pF; Voltage Rating: 50V; Termination: SMD/SMT; Length: 1.6mm; Height: 0.8mm; Width: 0.031inch; Thickness: 0.035inch; Depth: 0.8mm; Radiation Hardening: No; Lead Free: Lead Free; Supplier Part Number 1: 311-3887-1-ND
footprint Cap Ceramic 0603 SMD (Reflow Soldering)
pins: 1, 2

## 16F88
designator IC?
PIC 16F88; Value: DIP18; Value: 16F88
footprint DIP18/W0.3 (18 PIN, W 300mil, Pin to pin 100mil)
pins: 1 RA2/AN2, 2 RA3/AN3, 3 RA4/AN4, 4 RA5/~{MCLR}, 5 GND, 6 RB0/INT, 7 RB1/SDA, 8 RB2/RX, 9 RB3/PGM, 10 SLK/RB4, 11 TX/RB5, 12 PGC/RB6, 13 PGD/RB7, 14 VCC, 15 OSC1/RA6, 16 OSC2/RA7, 17 AN0/RA0, 18 AN1/RA1

## 16F877
designator IC?, comment 16F877A
8K FLASH, 368B RAM, 256B EFROM; Value: PIC16F877A; Value: DIP 40; Copyright by: VanDungEvn
footprint DIP40/W0.6 (40 PIN, W 600mil, Pin to pin 100mil)
pins: 1 ~{MCLR}/VPP, 2 RA0/AN0, 3 RA1/AN1, 4 RA2/AN2, 5 RA3/AN3, 6 RA4/T0CKI, 7 RA5/AN4, 8 RE0/RD, 9 RE1/WR, 10 RE2/CS, 11 VDD, 12 VSS, 13 OSC1/CLKI, 14 OSC2/CLKO, 15 RC0/T1OSO, 16 RC1/T1OSI, 17 RC2/CCP1, 18 RC3/SCK, 19 RD0/PSP0, 20 RD1/PSP1, 21 RD2/PSP2, 22 RD3/PSP3, 23 RC4/SPI, 24 RC5/SDO, 25 RC6/TX, 26 RC7/RX, 27 RD4/PSP4, 28 RD5/PSP5, 29 RD6/PSP6, 30 RD7/PSP7, 31 VSS, 32 VDD, 33 RB0/INT, 34 RB1, 35 RB2, 36 RB3/PGM, 37 RB4, 38 RB5, 39 RB6/PGC, 40 RB7/PGD

## 17#2SC1815-SOT23 SMD
designator Q?
2SC1815 50V 150mA / NPN SMD Transistor (No Pb, GP- Green Part) / SOT-23 Package; ComponentLink1Description: tme.vn; ComponentLink1URL: http://www.tme.vn/Product.aspx?id=413#page=pro_info
footprint 17# 2SC1815-HF (SOT23-3)
pins: 1 B, 2 E, 3 C

## 18#SIMCOM_SIMCOM868
designator U?
SIMCOM_SIMCOM868
footprint 18# SIM868 (SIM868_Hardware_Design_V1.00)
part A pins: 1 UART1_TXD, 2 UART1_RXD, 3 UART1_RTS, 4 UART1_CTS, 5 UART1_DCD, 6 UART1_DTR, 7 UART1_RI, 8 GND, 9 MICP, 10 MICN, 11 SPK1P, 12 SPK1N, 13 GND, 14 SIM1_DET, 15 SIM1_DATA, 16 SIM1_CLK, 17 SIM1_RST, 18 SIM1_VDD, 19 GND, 20 BT_ANT, 21 GND, 22 UART2_TXD, 23 UART2_RXD, 24 USB_VBUS, 25 USB_DP, 26 USB_DM, 27 GND, 28 VRTC, 29 RF_SYNC, 30 GND, 31 GND, 32 GSM_ANT, 33 GND, 34 GPS_VABT, 35 VBAT, 36 GND, 37 GND, 38 ADC, 39 PWRKEY, 40 VDD_EXT, 41 NETLIGHT, 42 STATUS
part B pins: 43 SPK2N, 44 SPK2P, 45 GND, 46 MCCA3, 47 MCCA2, 48 MCCA1, 49 MCCA0, 50 MCCK, 51 MCCM0, 52 SIM2_DET, 53 SIM2_DATA, 54 SIM2_CLK, 55 SIM2_RST, 56 SIM2_VDD, 57 GPIO1, 58 GPIO2, 59 GNSS_EN, 60 1PPS, 61 GPS_TXD, 62 GPS_RXD, 63 GND, 64 SDA, 65 SCL, 66 GND, 67 GND, 68 GPS_ATN

## 18F2550
designator IC?
32KB Flash, 2048B RAM, 256B EFROM, 28-Pin PDIP; Value: DIP 28/W0.3; Value: 18F2550; Copyright by: VanDungEvn
footprint DIP28/W0.3 (28 PIN, W 300mil, Pin to pin 100mil)
pins: 1 ~{MCLR}/VPP (in), 2 RA0/AN0 (io), 3 RA1/AN1 (io), 4 RA2/AN2/VREF- (io), 5 RA3/AN3/VREF+ (io), 6 RA4/T0CKI (io), 7 RA5/AN4/~{SS}/LVDIN (io), 8 VSS (power), 9 OSC1/CLKI (in), 10 OSC2/CLKO/RA6 (io), 11 RC0/T1OSO/T1CKI (io), 12 RC1/T1OSI/CCP2 (io), 13 RC2/CCP1 (io), 14 RC3/VUSB (io), 15 RC4/VM/D- (io), 16 RC5/VP/D+ (io), 17 RC6/TX/CK (io), 18 RC7/RX/DT (io), 19 VSS (power), 20 VDD (power), 21 RB0 (io), 22 RB1 (io), 23 RB2 (io), 24 RB3 (io), 25 RB4 (io), 26 RB5 (io), 27 RB6 (io), 28 RB7 (io)

## 18F4520
designator IC?
32KB Flash, 1536B RAM, 256B EFROM, 40-Pin PDIP; Value: DIP 40; Value: 18F4520; Copyright by: VanDungEvn
footprint DIP40/W0.6 (40 PIN, W 600mil, Pin to pin 100mil)
pins: 1 ~{MCLR}/VPP/RE3 (in), 2 RA0/AN0 (io), 3 RA1/AN1 (io), 4 RA2/AN2/VREF-/CVREF (io), 5 RA3/AN3/VREF+ (io), 6 RA4/T0CKI/C1OUT (io), 7 RA5/AN4/~{SS}/HLVDIN/C2OUT (io), 8 RE0/AN5/~{RD} (io), 9 RE1/AN6/~{WR} (io), 10 RE2/AN7/~{CS} (io), 11 VDD (power), 12 VSS (power), 13 OSC1/CLKI/RA7 (in), 14 OSC2/CLKO/RA6 (io), 15 RC0/T1OSO/T13CKI (io), 16 RC1/T1OSI/CCP2 (io), 17 RC2/CCP1/P1A (io), 18 RC3/SCK/SCL (io), 19 RD0/PSP0 (io), 20 RD1/PSP1 (io), 21 RD2/PSP2 (io), 22 RD3/PSP3 (io), 23 RC4/SDI/SDA (io), 24 RC5/SDO (io), 25 RC6/TX/CK (io), 26 RC7/RX/DT (io), 27 RD4/PSP4 (io), 28 RD5/PSP5/P1B (io), 29 RD6/PSP6/P1C (io), 30 RD7/PSP7/P1D (io), 31 VSS (power), 32 VDD (power), 33 RB0/INT0/FLT0/AN12 (io), 34 RB1/INT1/AN10 (io), 35 RB2/INT2/AN8 (io), 36 RB3/AN9/CCP2 (io), 37 RB4/KBI0/AN11 (io), 38 RB5/KBI1/PGM (io), 39 RB6/KBI2/PGC (io), 40 RB7/KBI3/PGD (io)

## 20#TLV73333PDBVR
designator U?  Supplier Part Number 1: 93X6756
LDO Regulator Pos 3.3V 0.3A 5-Pin SOT-23 T/R; Manufacturer: Texas Instruments; Number of Outputs: 1; Min Input Voltage: 1.4V; Max Input Voltage: 5.5V; Max Output Current: 300mA; Dropout Voltage: 125mV; Min Current Limit: 360mA; Polarity: Positive; Quiescent Current: 60uA; Accuracy: 1%; Output Type: Fixed; Manufacturer Part Number: TLV73333PDBVR; Mount: Surface Mount; Case/Package: SOT-23-5; Number of Pins: 5; Weight: 0.000557oz; Contact Plating: Gold; Min Operating Temperature: -40°C; Max Operating Temperature: 125°C; Packaging: Tape and Reel; Output Voltage: 3.3V; Output Current: 300mA; Number of Regulators: 1; Package Quantity: 3000; Radiation Hardening: No; Lead Free: Lead Free; Supplier 1: Newark
footprint 20# TLV733P-Q1 (DRV0006A, WSON_6, Capacitor-Free, 300-mA, Low Dropout (LDO) Linear Regulator)
pins: 1 OUT, 2 NC1, 3 GND, 4 EN, 5 NC2, 6 VIN

## 20#TLV73333PDBVR_1
designator U?, comment 20#TLV73333PDBVR  Supplier Part Number 1: 93X6756
LDO Regulator Pos 3.3V 0.3A 5-Pin SOT-23 T/R; Manufacturer: Texas Instruments; Number of Outputs: 1; Min Input Voltage: 1.4V; Max Input Voltage: 5.5V; Max Output Current: 300mA; Dropout Voltage: 125mV; Min Current Limit: 360mA; Polarity: Positive; Quiescent Current: 60uA; Accuracy: 1%; Output Type: Fixed; Manufacturer Part Number: TLV73333PDBVR; Mount: Surface Mount; Case/Package: SOT-23-5; Number of Pins: 5; Weight: 0.000557oz; Contact Plating: Gold; Min Operating Temperature: -40°C; Max Operating Temperature: 125°C; Packaging: Tape and Reel; Output Voltage: 3.3V; Output Current: 300mA; Number of Regulators: 1; Package Quantity: 3000; Radiation Hardening: No; Lead Free: Lead Free; Supplier 1: Newark
footprint 20# TLV73333PDBVR (IC REG LINEAR 3.3V 300MA SOT23-5)
pins: 1 IN, 2 GND, 3 EN, 4 NC, 5 OUT

## 21#TPS54360DDAR
designator U?
Voltage Regulators - Switching Regulators 60 Vin,3.5 A,SD DC-DC Converter; Manufacturer: Texas Instruments; Output Current: 3.5A; Min Input Voltage: 4.5V; Number of Outputs: 1; Max Input Voltage: 60V; Output Voltage: 58.8V; Switching Frequency: 2.5MHz; Synchronous Rectifier: Yes; Min Output Voltage: 800mV; Quiescent Current: 146uA; Output Type: Adjustable; Output Configuration: Positive; Supplier 1: Digi-Key; Manufacturer Part Number: TPS54360DDAR; Stock 1: 40955; Pricing 1: 1=4.32, 10=3.883, 100=3.1815, 500=2.7083, 1000=2.2841 (USD); Mount: Surface Mount; Number of Pins: 8; Contact Plating: Gold; Min Operating Temperature: -40°C; Max Operating Temperature: 125°C; Packaging: Tape and Reel; Package Quantity: 2500; Max Output Current: 3.5A; Max Output Voltage: 58.8V; Operating Supply Voltage: 60V; Radiation Hardening: No; REACH SVHC: No SVHC; Lead Free: Lead Free; Supplier Part Number 1: 296-37676-1-ND; Case/Package: DDA R-PDSO-G8
footprint 21# TPS54360 (R-PDSO-G8,V Input, 3.5-A, Step-Down DC/DC Converter)
pins: 1 BOOT, 2 VIN, 3 EN, 4 RT/CLK, 5 FB, 6 COMP, 7 GND, 8 SW, 9 GND_PAD

## 21#TPS54360DDAR_1
designator U?, comment 21#TPS54360DDAR
Voltage Regulators - Switching Regulators 60 Vin,3.5 A,SD DC-DC Converter; Manufacturer: Texas Instruments; Output Current: 3.5A; Min Input Voltage: 4.5V; Number of Outputs: 1; Max Input Voltage: 60V; Output Voltage: 58.8V; Switching Frequency: 2.5MHz; Synchronous Rectifier: Yes; Min Output Voltage: 800mV; Quiescent Current: 146uA; Output Type: Adjustable; Output Configuration: Positive; Supplier 1: Digi-Key; Manufacturer Part Number: TPS54360DDAR; Stock 1: 40955; Pricing 1: 1=4.32, 10=3.883, 100=3.1815, 500=2.7083, 1000=2.2841 (USD); Mount: Surface Mount; Number of Pins: 8; Contact Plating: Gold; Min Operating Temperature: -40°C; Max Operating Temperature: 125°C; Packaging: Tape and Reel; Package Quantity: 2500; Max Output Current: 3.5A; Max Output Voltage: 58.8V; Operating Supply Voltage: 60V; Radiation Hardening: No; REACH SVHC: No SVHC; Lead Free: Lead Free; Supplier Part Number 1: 296-37676-1-ND; Case/Package: DDA R-PDSO-G8
footprint 21# TPS54360 (R-PDSO-G8,V Input, 3.5-A, Step-Down DC/DC Converter)
pins: 1 BOOT, 2 VIN, 3 EN, 4 RT/CLK, 5 FB, 6 COMP, 7 GND, 8 SW, 9 GND_PAD

## 22# Battery CR1220
designator B?, comment 22# CR1220
footprint 22# CR_1220 (BS-1220-2 PPS)
pins: 1 +, 2 -

## 22pF/50V/C0603/10%
designator C?, comment 22pF/25V/C0603/10%
CAP CER 22PF 50V NP0 0603; Manufacturer: Kemet; Manufacturer Part Number: C0603C220K5GACTU; Tolerance: ±10%; Temperature Coefficient: C0G, NP0; RoHS: RoHS Compliant; Category: Capacitors; Packaging: Digi-Reel®; Capacitance: 22pF; Voltage - Rated: 50V; Mounting Type: Surface Mount, MLCC; Operating Temperature: -55°C ~ 125°C; Applications: General Purpose; Ratings: -; Package / Case: 0603 (1608 Metric); Size / Dimension: 0.063" L x 0.031" W (1.60mm x 0.80mm); Height - Seated (Max): -; Thickness (Max): 0.034" (0.87mm); Lead Spacing: -; Features: -; Lead Style: -; ComponentLink1URL: http://www.kemet.com/docfinder?Partnumber=C0603C220K5GACTU; ComponentLink1Description: http://www.kemet.com/docfinder?Partnumber=C0603C220K5GACTU; Supplier 1: Digi-Key; Supplier Part Number 1: 399-7875-1-ND
footprint Cap Ceramic 0603 SMD (Reflow Soldering)
pins: 1, 2

## 22R/R0603/1%
designator R?, comment 51R/R0603/1%
RES SMD 22 OHM 1% 1/10W 0603; Manufacturer: Yageo; Manufacturer Part Number: RC0603FR-0722RL; Resistance (Ohms): 22; Power (Watts): 0.1W, 1/10W; Temperature Coefficient: ±100ppm/°C; RoHS: RoHS Compliant; Category: Resistors; Packaging: Cut Tape (CT); Tolerance: ±1%; Composition: Thick Film; Features: Moisture Resistant; Operating Temperature: -55°C ~ 155°C; Package / Case: 0603 (1608 Metric); Supplier Device Package: 0603; Size / Dimension: 0.063" L x 0.031" W (1.60mm x 0.80mm); Height: 0.022" (0.55mm); Number of Terminations: 2; ComponentLink1URL: http://www.yageo.com/NewPortal/yageodocoutput?fileName=/pdf/R-Chip/PYu-RC_Group_51_RoHS_L_3.pdf; ComponentLink1Description: http://www.yageo.com/NewPortal/yageodocoutput?fileName=/pdf/R-Chip/PYu-RC_Group_51_RoHS_L_3.pdf; Supplier 1: Digi-Key; Supplier Part Number 1: 311-22.0HRCT-ND
footprint Res 0603 SMD (Reflow Soldering)
pins: 1, 2

## 24# ABM3B-8.000MHZ-B2-T
designator Y?
CRYSTAL 8.0000MHZ 18PF SMD; Manufacturer: Abracon LLC; Frequency: 8MHz; Frequency Stability: ±50ppm; Frequency Tolerance: ±20ppm; ESR (Equivalent Series Resistance): 200 Ohm; Operating Mode: Fundamental; Manufacturer Part Number: ABM3B-8.000MHZ-B2-T; RoHS: RoHS Compliant; Category: Crystals and Oscillators; Packaging: Tape & Reel (TR); Type: MHz Crystal; Load Capacitance: 18pF; Operating Temperature: -20°C ~ 70°C; Ratings: -; Mounting Type: Surface Mount; Case/Package: ABM3B SMD 4 lead; Size / Dimension: 0.197" L x 0.126" W (5.00mm x 3.20mm); Height: 0.043" (1.10mm); ComponentLink1URL: http://www.abracon.com/Resonators/abm3b.pdf; ComponentLink1Description: http://www.abracon.com/Resonators/abm3b.pdf; Supplier 1: Digi-Key; Supplier Part Number 1: 535-9720-1-ND
footprint 24# ABM3B-8.000MHZ (ABM3B B2-T)
pins: 1 OSC1, 2 GND, 3 OSC2, 4 GND

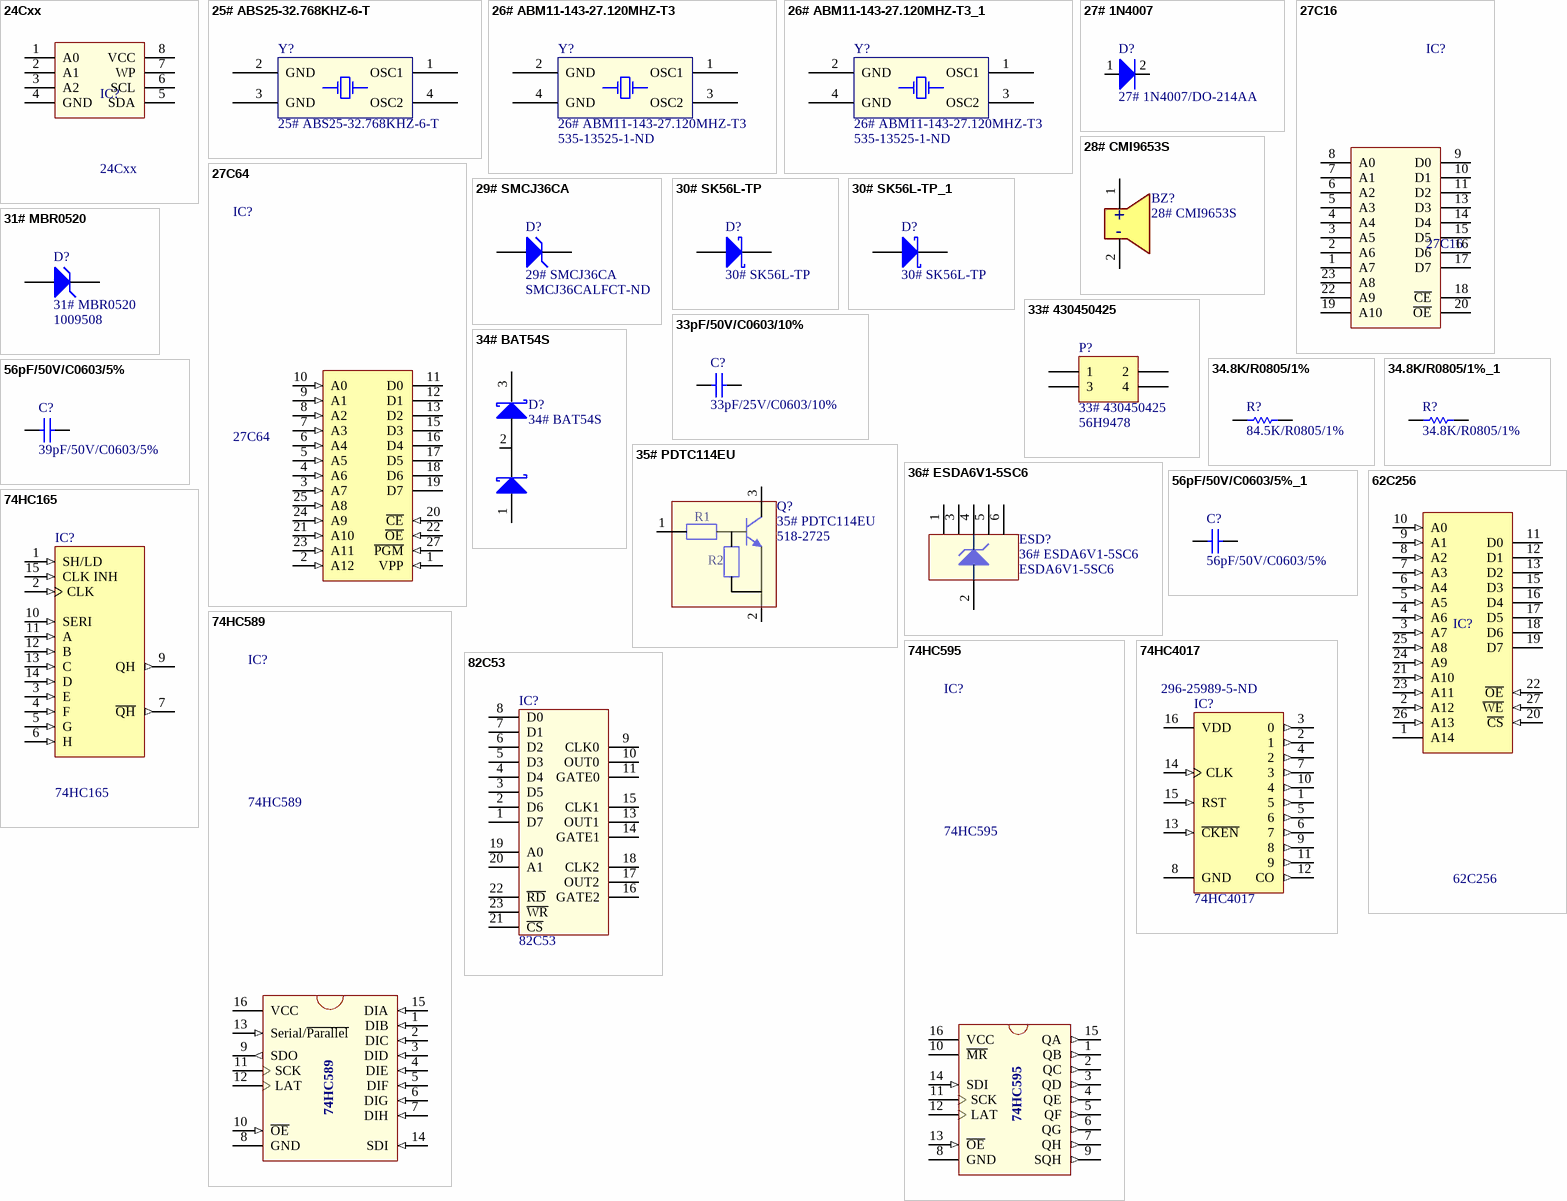
[diagram p2: symbols 24Cxx to 82C53]

## 24Cxx
designator IC?
Standard 2-Wire Bus Interface Serial EEPROM; Value: DIP 8; Value: 24Cxx; Copyright by: VanDungEvn
footprint DIP8/W0.3 (8 PIN, W 300mil, Pin to pin 100mil)
pins: 1 A0, 2 A1, 3 A2, 4 GND (power), 5 SDA, 6 SCL, 7 WP, 8 VCC (power)

## 25# ABS25-32.768KHZ-6-T
designator Y?
CRYSTAL 32.7680KHZ 6PF SMD; Manufacturer: Abracon LLC; Frequency Tolerance: ±20ppm; ESR (Equivalent Series Resistance): 50 kOhm; Operating Mode: Fundamental; Manufacturer Part Number: ABS25-32.768KHZ-6-T; RoHS: RoHS Compliant; Category: Crystals and Oscillators; Packaging: Digi-Reel®; Type: kHz Crystal (Tuning Fork); Frequency: 32.768kHz; Frequency Stability: -; Load Capacitance: 6pF; Operating Temperature: -40°C ~ 85°C; Ratings: -; Mounting Type: Surface Mount; Case/Package: ABS25 SMD 4 lead; Size / Dimension: 0.315" L x 0.150" W (8.00mm x 3.80mm); Height: 0.098" (2.50mm); ComponentLink1URL: http://www.abracon.com/Resonators/abs25.pdf; ComponentLink1Description: http://www.abracon.com/Resonators/abs25.pdf; Supplier 1: Digi-Key; Supplier Part Number 1: 535-10240-1-ND
footprint 25# ABS25 (#25 ABS25 Crystal SMD 32768)
pins: 1 OSC1, 2 GND, 3 GND, 4 OSC2

## 26# ABM11-143-27.120MHZ-T3
designator Y?  Supplier Part Number 1: 535-13525-1-ND
27.12MHz ±10ppm Crystal 8pF 40 Ohm -40°C ~ 85°C  Surface Mount 4-SMD, No Lead (DFN, LCC); Manufacturer: Abracon; ESR (Equivalent Series Resistance): 40R; Frequency Stability: 30ppm; Supplier 1: Digi-Key; Manufacturer Part Number: ABM11-143-27.120MHZ-T3; Stock 1: 6792; Pricing 1: 1=0.62, 10=0.516, 50=0.464, 100=0.4125, 500=0.3919, 1000=0.33 (USD); Mount: Surface Mount; Case/Package: ABM11; Min Operating Temperature: -40°C; Max Operating Temperature: 85°C; Packaging: Cut Tape; Frequency: 27.12MHz; Load Capacitance: 8pF; Frequency Tolerance: 10ppm; Length: 0.081inch; Height: 0.02inch; Width: 0.065inch
footprint 26# ABM11-143 (27.120MHZ-T3,CERAMICS SMD ULTRA MINIATURE  QUARTZ CRYSTAL)
pins: 1 OSC1, 2 GND, 3 OSC2, 4 GND

## 26# ABM11-143-27.120MHZ-T3_1
designator Y?, comment 26# ABM11-143-27.120MHZ-T3  Supplier Part Number 1: 535-13525-1-ND
27.12MHz ±10ppm Crystal 8pF 40 Ohm -40°C ~ 85°C  Surface Mount 4-SMD, No Lead (DFN, LCC); Manufacturer: Abracon; ESR (Equivalent Series Resistance): 40R; Frequency Stability: 30ppm; Supplier 1: Digi-Key; Manufacturer Part Number: ABM11-143-27.120MHZ-T3; Stock 1: 6792; Pricing 1: 1=0.62, 10=0.516, 50=0.464, 100=0.4125, 500=0.3919, 1000=0.33 (USD); Mount: Surface Mount; Case/Package: ABM11; Min Operating Temperature: -40°C; Max Operating Temperature: 85°C; Packaging: Cut Tape; Frequency: 27.12MHz; Load Capacitance: 8pF; Frequency Tolerance: 10ppm; Length: 0.081inch; Height: 0.02inch; Width: 0.065inch
footprint 26# ABM11-143 (27.120MHZ-T3,CERAMICS SMD ULTRA MINIATURE  QUARTZ CRYSTAL)
pins: 1 OSC1, 2 GND, 3 OSC2, 4 GND

## 27# 1N4007
designator D?, comment 27# 1N4007/DO-214AA
Diode LS 1A 1000V DO-41; ComponentLink1Description: Datasheet; ComponentLink1URL: D:\Dropbox\Datasheets\Diodes and Rectifiers\Diodes\1N400X.pdf; Unit Price: 0.0072
footprint 27# 1n4007 smd (DO214 4.57x2.79mm)
pins: 1 A, 2 K

## 27C16
designator IC?
16Kbit EFROM; Value: DIP 24/W0.6; Value: 27C16; Copyright by: VanDungEvn
footprint DIP24/W0.6 (DIP24/W.600, Pin to pin 100mil)
pins: 1 A7, 2 A6, 3 A5, 4 A4, 5 A3, 6 A2, 7 A1, 8 A0, 9 D0, 10 D1, 11 D2, 12 GND hidden to GND, 13 D3, 14 D4, 15 D5, 16 D6, 17 D7, 18 ~{CE}, 19 A10, 20 ~{OE}, 21 VPP hidden to VCC, 22 A9, 23 A8, 24 VCC hidden to VCC

## 27C64
designator IC?
64K EFROM; Value: DIP28/W0.6; Value: 27C64
footprint DIP28/W0.6 (DIP28/W.600, Pin to pin 100mil)
pins: 1 VPP (in), 2 A12 (in), 3 A7 (in), 4 A6 (in), 5 A5 (in), 6 A4 (in), 7 A3 (in), 8 A2 (in), 9 A1 (in), 10 A0 (in), 11 D0 (hiz), 12 D1 (hiz), 13 D2 (hiz), 14 GND hidden to GND, 15 D3 (hiz), 16 D4 (hiz), 17 D5 (hiz), 18 D6 (hiz), 19 D7 (hiz), 20 ~{CE} (in), 21 A10 (in), 22 ~{OE} (in), 23 A11 (in), 24 A9 (in), 25 A8 (in), 27 ~{PGM} (in), 28 VCC hidden to VCC

## 28# CMI9653S
designator BZ?
2.5-3V 2.7KHz; Manufacturer: Mallory Sonalert Products Inc.; Manufacturer Part Number: PB-12N23P-05Q; Driver Circuitry: Indicator, Internally Driven; Input Type: DC; Voltage - Rated: 5V; Voltage Range: 4 ~ 7V; Frequency: 2.3kHz; Operating Mode: Single Tone; Sound Pressure Level: 85dB @ 5V, 10cm; Current - Supply: 30mA; Port Location: Top; Ratings: Washable; Supplier 1: Digi-Key; RoHS: RoHS Compliant; Category: Audio Products; Stock 1: 2900; Pricing 1: 1=3.21, 10=2.892, 25=2.5704, 50=2.249, 100=2.1686, 250=2.08832, 500=2.008, 1000=1.96784, 5000=1.92768 (USD); Packaging: Bulk; Part Status: Active; Technology: Magnetic; Duration: -; Operating Temperature: -20°C ~ 70°C; Approvals: -; Mounting Type: Through Hole; Termination: PC Pins; Size / Dimension: 0.472" Dia (12.00mm); Height - Seated (Max): 0.402" (10.20mm); ComponentLink1URL: http://www.mallory-sonalert.com/specifications/PB-12N23P-05Q.pdf; ComponentLink1Description: http://www.mallory-sonalert.com/specifications/PB-12N23P-05Q.pdf; Supplier Part Number 1: 458-1064-ND
footprint 28# Buzzer (PB-12N23P-05Q)
pins: 1 + (power), 2 - (power)

## 29# SMCJ36CA
designator D?  Supplier Part Number 1: SMCJ36CALFCT-ND
TVS DIODE 36VWM 58.1VC SMC; Manufacturer: Littelfuse; Direction: Bidirectional; Reverse Breakdown Voltage: 40V; Operating Supply Voltage: 36V; Max Surge Current: 25.9A; Number of Bidirectional Channels: 1; Clamping Voltage: 58.1V; Peak Pulse Power: 1.5kW; Power Line Protection: No; Test Current: 1mA; Max Breakdown Voltage: 44.2V; Max Power Dissipation: 6.5W; Leakage Current: 1uA; Supplier 1: Digi-Key; Manufacturer Part Number: SMCJ36CA; Stock 1: 75326; Pricing 1: 1=0.7, 10=0.587, 25=0.514, 100=0.4406, 250=0.3818, 500=0.3231, 1000=0.2497 (USD); Mount: Surface Mount; Number of Pins: 2; Min Operating Temperature: -55°C; Max Operating Temperature: 150°C; Package Quantity: 3000; Packaging: Tape and Reel; Reverse Standoff Voltage: 36V; Min Breakdown Voltage: 40V; Breakdown Voltage: 40V; Number of Channels: 1; Polarity: Bidirectional; Termination: SMD/SMT; Number of Elements: 1; Peak Pulse Current: 25.9A; Power Dissipation: 1.5kW; Voltage Rating (DC): 36V; Composition: Zener; Length: 8.13mm; Height: 2.62mm; Width: 6.22mm; Radiation Hardening: No; REACH SVHC: No SVHC; Lead Free: Lead Free
footprint 29# diode SMCJ36A (DO-214AB (SMC J-Bend))
pins: 1 A, 2 K

## 30# SK56L-TP
designator D?
DIODE SCHOTTKY 60V 5A; Manufacturer: Micro Commercial Co; Voltage - Forward (Vf) (Max) @ If: 750mV @ 5A; Speed: Fast Recovery =< 500ns, > 200mA (Io); Current - Reverse Leakage @ Vr: 1mA @ 60V; Manufacturer Part Number: SK56L-TP; RoHS: RoHS Compliant; Category: Discrete Semiconductor Products; Packaging: Cut Tape (CT); Diode Type: Schottky; Voltage - DC Reverse (Vr) (Max): 60V; Current - Average Rectified (Io): 5A; Reverse Recovery Time (trr): -; Capacitance @ Vr, F: -; Mounting Type: Surface Mount; Package / Case: DO-214AB, SMC; Supplier Device Package: DO-214AB, (SMC); Operating Temperature - Junction: -55°C ~ 150°C; ComponentLink1URL: http://www.mccsemi.com/up_pdf/SK52L-SK510L(DO-214AB).PDF; ComponentLink1Description: http://www.mccsemi.com/up_pdf/SK52L-SK510L(DO-214AB).PDF; Supplier 1: Digi-Key; Supplier Part Number 1: SK56L-TPMSCT-ND
footprint 30# SK56L-TPMSCT-ND (SK56L-TPMSCT-ND(DO-214AB))
pins: 1 A, 2 K

## 30# SK56L-TP_1
designator D?, comment 30# SK56L-TP
DIODE SCHOTTKY 60V 5A; Manufacturer: Micro Commercial Co; Voltage - Forward (Vf) (Max) @ If: 750mV @ 5A; Speed: Fast Recovery =< 500ns, > 200mA (Io); Current - Reverse Leakage @ Vr: 1mA @ 60V; Manufacturer Part Number: SK56L-TP; RoHS: RoHS Compliant; Category: Discrete Semiconductor Products; Packaging: Cut Tape (CT); Diode Type: Schottky; Voltage - DC Reverse (Vr) (Max): 60V; Current - Average Rectified (Io): 5A; Reverse Recovery Time (trr): -; Capacitance @ Vr, F: -; Mounting Type: Surface Mount; Package / Case: DO-214AB, SMC; Supplier Device Package: DO-214AB, (SMC); Operating Temperature - Junction: -55°C ~ 150°C; ComponentLink1URL: http://www.mccsemi.com/up_pdf/SK52L-SK510L(DO-214AB).PDF; ComponentLink1Description: http://www.mccsemi.com/up_pdf/SK52L-SK510L(DO-214AB).PDF; Supplier 1: Digi-Key; Supplier Part Number 1: SK56L-TPMSCT-ND
footprint 30# SK56L-TPMSCT-ND (SK56L-TPMSCT-ND(DO-214AB))
pins: 1 A, 2 K

## 31# MBR0520
designator D?  Supplier Part Number 1: 1009508
Supplier 1: RSComponents
footprint 31# MBR0520_MBR0580 (SOD123)
pins: 1 A, 2 K

## 33# 430450425
designator P?  Supplier Part Number 1: 56H9478
Header, 2-Pin, Dual row; LatestRevisionDate: 17-Jul-2002; LatestRevisionNote: Re-released for DXP Platform.; Publisher: Altium Limited; Supplier 1: Newark
footprint 33# Jac 430450425 half
pins: 1, 2, 3, 4

## 33pF/50V/C0603/10%
designator C?, comment 33pF/25V/C0603/10%
CAP CER 33PF 50V C0G/NP0 0603; Manufacturer: Samsung Electro-Mechanics; Manufacturer Part Number: CL10C330JB8NNNC; Tolerance: ±5%; Temperature Coefficient: C0G, NP0; Notification: Current market demand for these product types have resulted in fluctuating and extending lead times. Lead times may differ.; Supplier 1: Digi-Key; RoHS: RoHS Compliant; Category: Capacitors; Stock 1: 380000; Pricing 1: 4000=0.00572, 8000=0.00522, 12000=0.00497 (USD); Packaging: Tape & Reel (TR); Part Status: Active; Voltage - Rated: 50V; Operating Temperature: -55°C ~ 125°C; Features: -; Ratings: -; Applications: General Purpose; Mounting Type: Surface Mount, MLCC; Package / Case: 0603 (1608 Metric); Size / Dimension: 0.063" L x 0.032" W (1.60mm x 0.80mm); Height - Seated (Max): -; Thickness (Max): 0.035" (0.90mm); Lead Spacing: -; Lead Style: -; ComponentLink1URL: http://media.digikey.com/pdf/Data%20Sheets/Samsung%20PDFs/CL_Series_MLCC_ds.pdf; ComponentLink1Description: http://media.digikey.com/pdf/Data%20Sheets/Samsung%20PDFs/CL_Series_MLCC_ds.pdf; Supplier Part Number 1: 1276-1070-2-ND
footprint Cap Ceramic 0603 SMD (Reflow Soldering)
pins: 1, 2

## 34# BAT54S
designator D?
SURFACE MOUNT SCHOTTKY BARRIER DIODE; Supplier 1: Digi-Key; Supplier Part Number 1: BAT54S-FDIDKR-ND
footprint SOT-23 (TRANS:1-B)
pins: 1, 2, 3

## 34.8K/R0805/1%
designator R?, comment 84.5K/R0805/1%
Thick Film Resistors - SMD 34.8K OHM 1% 0805; Manufacturer: Yageo; Manufacturer Part Number: RC0603FR-0734K8L; Power Rating: 100mW; Resistance: 34.8kR; Voltage Rating: 50V; Temperature Coefficient: 100ppm/°C; Supplier 1: Digi-Key; Stock 1: 82861; Pricing 1: 1=0.1, 10=0.026, 100=0.0107, 1000=0.0048, 2500=0.0042 (USD); Case/Package: 0603; Case Code (Imperial): 0603; Case Code (Metric): 1608; Min Operating Temperature: -55°C; Max Operating Temperature: 155°C; Tolerance: 1%; Packaging: Tape and Reel; Termination: SMD/SMT; Composition: Thick Film; Military Standard: Not; Voltage Rating (DC): 50V; Length: 1.6mm; Height: 0.45mm; Width: 0.8mm; Depth: 0.8mm; Lead Free: Lead Free; Supplier Part Number 1: 311-34.8KHRCT-ND
footprint Res 0805 SMD (Reflow Soldering)
pins: 1, 2